# Altium footprint library IFX-PG-TLGA-5-8.PcbLib: 1 footprints
Each footprint in its own frame and in the unit in brackets; x right, y up, seen from the top. Pads: shape width x height; smd on the part's side, far side on the other; paste and mask are expansions set on the pad; w line width, h text height; cw(c..) or ccw(c..) is an arc to the next point about the centre after c.
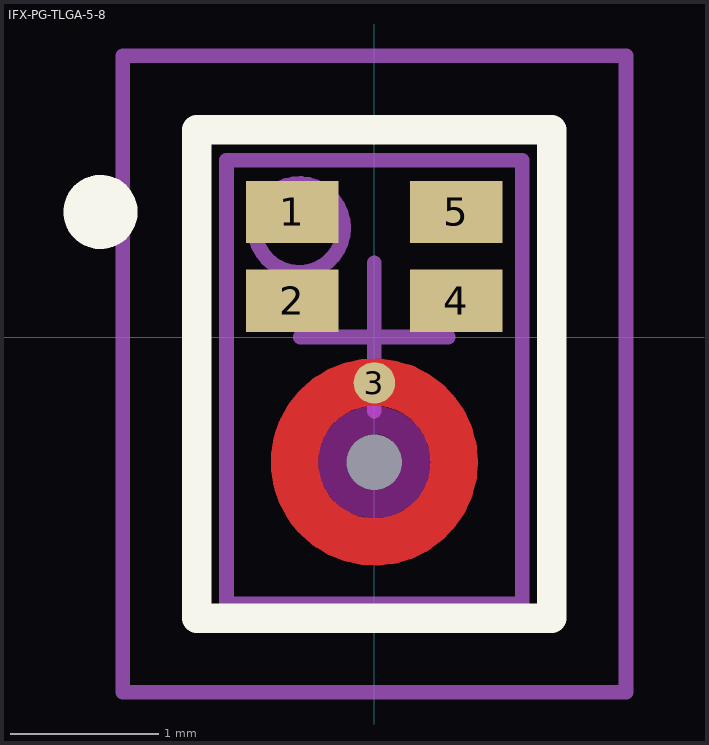
[diagram p0: the footprint, top view; thin cyan lines are the x and y axes]

## IFX-PG-TLGA-5-8 [mm] "Microphone, SMD, 5 pin, 2.00 mm L X 3.00 mm W X 1.06 mm H body"
height 1.06
pads (6):
  rect 0.625x0.42 smd paste-0.21 mask+0: 1(-0.555,0.845) 2(-0.555,0.245) 4(0.555,0.245) 5(0.555,0.845)
  round 0.28 smd paste-0.14 mask-0.14: 3(0,-0.31)
  round 0 hole 0.375 unplated paste+0 mask+0: ""(0,-0.845)
Top Layer:
  circle w0.32: c0,-0.845 r0.54
Top Overlay:
  circle w0.25: c-1.85,0.845 r0.125
  lines w0.2: -1.2,-1.9 -1.2,1.4 1.2,1.4 1.2,-1.9 -1.2,-1.9
Top Paste:
  region: -0.827,0.971 -0.827,0.981 -0.82,0.999 -0.805,1.013 -0.787,1.02 -0.777,1.02 -0.333,1.02 -0.323,1.02 -0.304,1.012 -0.29,0.998 -0.283,0.98 -0.282,0.97 -0.282,0.72 -0.282,0.71 -0.29,0.692 -0.304,0.678 -0.323,0.67 -0.333,0.67 -0.777,0.67 -0.787,0.67 -0.806,0.678 -0.82,0.692 -0.827,0.71 -0.827,0.72
  region: 0.282,0.97 0.283,0.98 0.29,0.999 0.304,1.013 0.323,1.02 0.333,1.02 0.777,1.02 0.787,1.02 0.806,1.012 0.82,0.998 0.827,0.98 0.827,0.97 0.827,0.72 0.827,0.71 0.82,0.692 0.806,0.678 0.787,0.67 0.777,0.67 0.333,0.67 0.323,0.67 0.304,0.678 0.29,0.692 0.283,0.71 0.282,0.72
  region: -0.827,0.37 -0.827,0.38 -0.82,0.399 -0.806,0.413 -0.787,0.42 -0.777,0.42 -0.332,0.42 -0.323,0.42 -0.304,0.412 -0.29,0.398 -0.282,0.38 -0.282,0.37 -0.282,0.12 -0.282,0.11 -0.29,0.092 -0.304,0.078 -0.323,0.07 -0.333,0.07 -0.777,0.07 -0.787,0.07 -0.806,0.078 -0.82,0.092 -0.827,0.11 -0.827,0.12
  region: 0.282,0.371 0.283,0.38 0.29,0.399 0.305,0.413 0.323,0.42 0.333,0.42 0.777,0.42 0.787,0.42 0.806,0.412 0.82,0.398 0.827,0.38 0.827,0.37 0.827,0.12 0.827,0.11 0.82,0.092 0.806,0.078 0.787,0.07 0.777,0.07 0.333,0.07 0.323,0.07 0.304,0.078 0.29,0.092 0.283,0.11 0.282,0.12
  lines w0.24: -0.536,-0.958 cw(c0,-0.845) -0.17,-0.324 ; -0.366,-1.253 ccw(c0,-0.845) 0.366,-1.253 ; 0.17,-0.324 cw(c0,-0.845) 0.537,-0.958
Keep-Out Layer:
  circle w0.192: c0,-0.845 r0.284
M3 (ASY_Text_Top):
  text ".DESIGNATOR" at -3.643,-0.385 h1.2
M13 (CMP_Body_OTL_Top):
  circle w0.1: c-0.508,0.737 r0.3
  lines w0.1: -1,-1.805 -1,1.195 1,1.195 1,-1.805 -1,-1.805
M15 (CMP_Courtyard_Top):
  lines w0.1: -0.5,0 0.5,0 ; 0,-0.5 0,0.5 ; -1.7,-2.4 1.7,-2.4 1.7,1.9 -1.7,1.9 -1.7,-2.4
3D body "IM66D130M.stp": height 1.06, standoff 0, extent -1,-1.805 1,1.195